# EAGLE library part C-CONTROL (library C-Control)
C-Control M-Unit
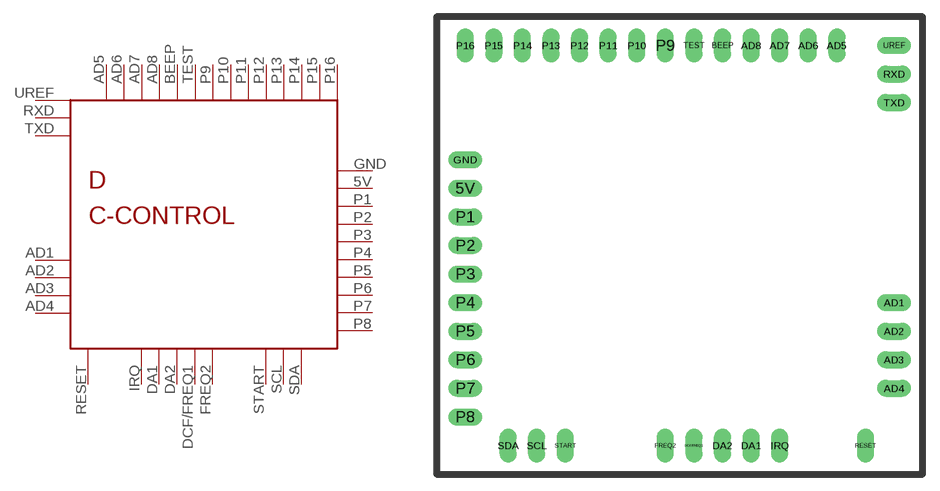
[diagram p0: symbol with the pads of C-CONTROL; footprint C-CONTROL]

Designator prefix D

## C-CONTROL  [C-CONTROL]
5V  5V
AD1  AD1
AD2  AD2
AD3  AD3
AD4  AD4
AD5  AD5
AD6  AD6
AD7  AD7
AD8  AD8
BEEP  BEEP
DA1  DA1
DA2  DA2
DCF/FREQ1  DCF/FREQ1
FREQ2  FREQ2
GND  GND
IRQ  IRQ
P1  P1
P2  P2
P3  P3
P4  P4
P5  P5
P6  P6
P7  P7
P8  P8
P9  P9
P10  P10
P11  P11
P12  P12
P13  P13
P14  P14
P15  P15
P16  P16
RESET  RESET
RXD  RXD
SCL  SCL
SDA  SDA
START  START
TEST  TEST
TXD  TXD
UREF  UREF

## Footprint C-CONTROL (pad centres in mm)
drill 1 long: 5V -20.32,5.08; AD1 17.78,-5.08; AD2 17.78,-7.62; AD3 17.78,-10.16; AD4 17.78,-12.7; AD5 12.7,17.78; AD6 10.16,17.78; AD7 7.62,17.78; AD8 5.08,17.78; BEEP 2.54,17.78; DA1 5.08,-17.78; DA2 2.54,-17.78; DCF/FREQ1 0,-17.78; FREQ2 -2.54,-17.78; GND -20.32,7.62; IRQ 7.62,-17.78; P1 -20.32,2.54; P2 -20.32,0; P3 -20.32,-2.54; P4 -20.32,-5.08; P5 -20.32,-7.62; P6 -20.32,-10.16; P7 -20.32,-12.7; P8 -20.32,-15.24; P9 -2.54,17.78; P10 -5.08,17.78; P11 -7.62,17.78; P12 -10.16,17.78; P13 -12.7,17.78; P14 -15.24,17.78; P15 -17.78,17.78; P16 -20.32,17.78; RESET 15.24,-17.78; RXD 17.78,15.24; SCL -13.97,-17.78; SDA -16.51,-17.78; START -11.43,-17.78; TEST 0,17.78; TXD 17.78,12.7; UREF 17.78,17.78